# EAGLE library part SN75176B (library Zoli2_2015-02-22)
RS485 driver/receiver, half duplex
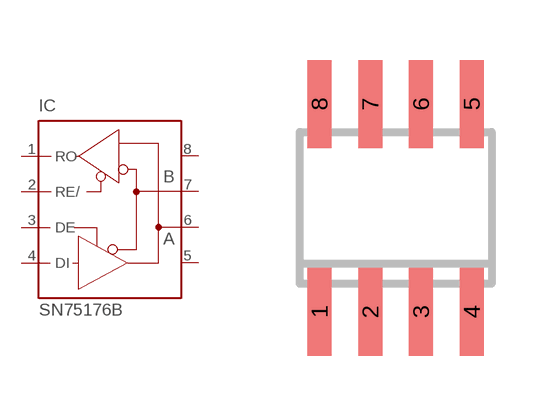
[diagram p34: symbol with the pads of SO8; footprint SO8]

Designator prefix IC

## SN75176B  [SO8]
1  RO  out
2  RE/  in
3  DE  in
4  DI  in
5  GND  pwr
6  A  pas
7  B  pas
8  VCC  pwr

## Footprint SO8 (pad centres in mm)
smd 0.6 x 2.2: 1 -1.905,-2.6; 2 -0.635,-2.6; 3 0.635,-2.6; 4 1.905,-2.6; 5 1.905,2.6; 6 0.635,2.6; 7 -0.635,2.6; 8 -1.905,2.6